# Altium schematic symbol library VCB20.SchLib: 4 symbols
Pins are listed as number, name and electrical type; pins without a type are passive.

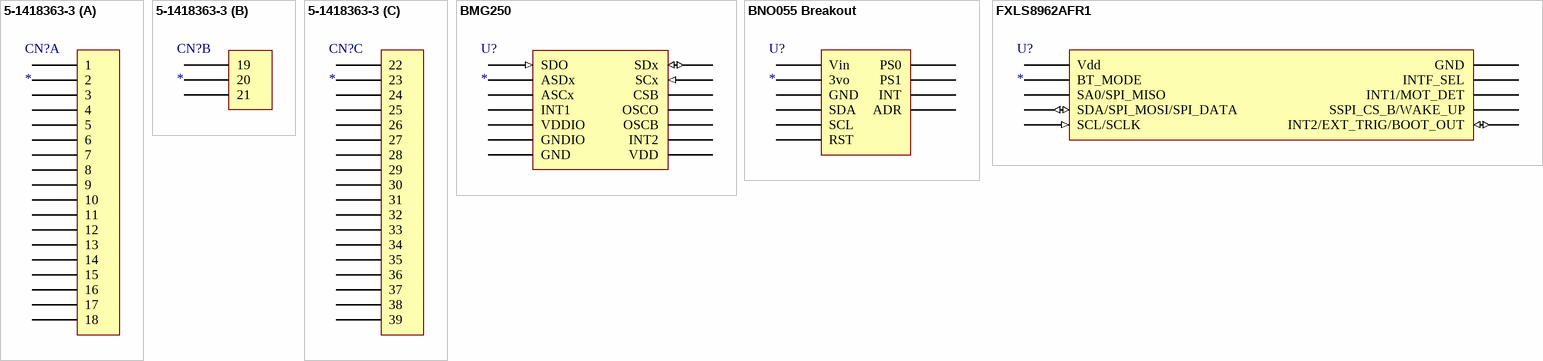
[diagram p0: symbols 5-1418363-3 to FXLS8962AFR1]

## 5-1418363-3
designator CN?
Levyseal 90 degree 39 pin header
footprint 5-1418363-3 (Levyseal 90 degree 39 pin header)
part A pins: 1, 2, 3, 4, 5, 6, 7, 8, 9, 10, 11, 12, 13, 14, 15, 16, 17, 18
part B pins: 19, 20, 21
part C pins: 22, 23, 24, 25, 26, 27, 28, 29, 30, 31, 32, 33, 34, 35, 36, 37, 38, 39

## BMG250
designator U?
3 Axis Gyroscope
footprint BMG250 (Gyroscope, 3axis)
pins: 1 SDO (in), 2 ASDx, 3 ASCx, 4 INT1, 5 VDDIO (power), 6 GNDIO (power), 7 GND (power), 8 VDD (power), 9 INT2, 10 OSCB, 11 OSCO, 12 CSB, 13 SCx (in), 14 SDx (io)

## BNO055 Breakout
designator U?
pins: 1 Vin, 2 3vo, 3 GND, 4 SDA, 5 SCL, 6 RST, 7 PS0, 8 PS1, 9 INT, 10 ADR

## FXLS8962AFR1
designator U?
3 axis accelerometer
footprint FXLS8962AFR1 (Accelerometer)
pins: 1 Vdd (power), 2 BT_MODE, 3 SA0/SPI_MISO, 4 SDA/SPI_MOSI/SPI_DATA (io), 5 SCL/SCLK (in), 6 INT2/EXT_TRIG/BOOT_OUT (io), 7 SSPI_CS_B/WAKE_UP, 8 INT1/MOT_DET, 9 INTF_SEL, 10 GND (power)